# Altium footprint library tests.PcbLib: 1 footprints
Each footprint in its own frame and in the unit in brackets; x right, y up, seen from the top. Pads: shape width x height; smd on the part's side, far side on the other; paste and mask are expansions set on the pad; w line width, h text height; cw(c..) or ccw(c..) is an arc to the next point about the centre after c.

## PCBComponent_1 [mm]
3D body "SOIC-8_3.9x4.9mm_P1.27mm.step": height 2.45, standoff -2.45, extent 15.367,-2.619 17.117,3.381
3D body "TSSOP-14_4.4x5mm_P0.65mm.step": height 2.5, standoff -2.5, extent 14.224,-2.692 15.224,3.708
3D body "SOIC-8_3.9x4.9mm_P1.27mm.step": height 1.75, standoff 0, extent -6.26,-28.527 -1.36,-22.527
3D body "SOIC-8_3.9x4.9mm_P1.27mm.step": height 1.75, standoff 0, extent 0.344,-22.352 5.244,-16.352
3D body "TSSOP-20_4.4x6.5mm_P0.65mm.step": height 1.2, standoff 0, extent -6.298,-22.377 0.202,-15.977
3D body "SOIC-8_3.9x4.9mm_P1.27mm.step": height 1.75, standoff 0, extent -6.26,-8.842 -1.36,-2.842
3D body "SOIC-8_3.9x4.9mm_P1.27mm.step": height 1.75, standoff 0, extent -1.18,-2.619 3.72,3.381
3D body "SOIC-8_3.9x4.9mm_P1.27mm.step": height 1.75, standoff 0, extent -0.926,-15.875 3.974,-9.875
3D body "TSSOP-14_4.4x5mm_P0.65mm.step": height 1, standoff 0, extent -6.31,-2.692 -1.31,3.708
3D body "SSOP-16_4.4x5.2mm_P0.65mm.step": height 1.4, standoff 0, extent -6.283,-15.823 -1.083,-9.323